# Altium footprint library L9110S_Motor_Drive.PcbLib: 1 footprints
Each footprint in its own frame and in the unit in brackets; x right, y up, seen from the top. Pads: shape width x height; smd on the part's side, far side on the other; paste and mask are expansions set on the pad; w line width, h text height; cw(c..) or ccw(c..) is an arc to the next point about the centre after c.
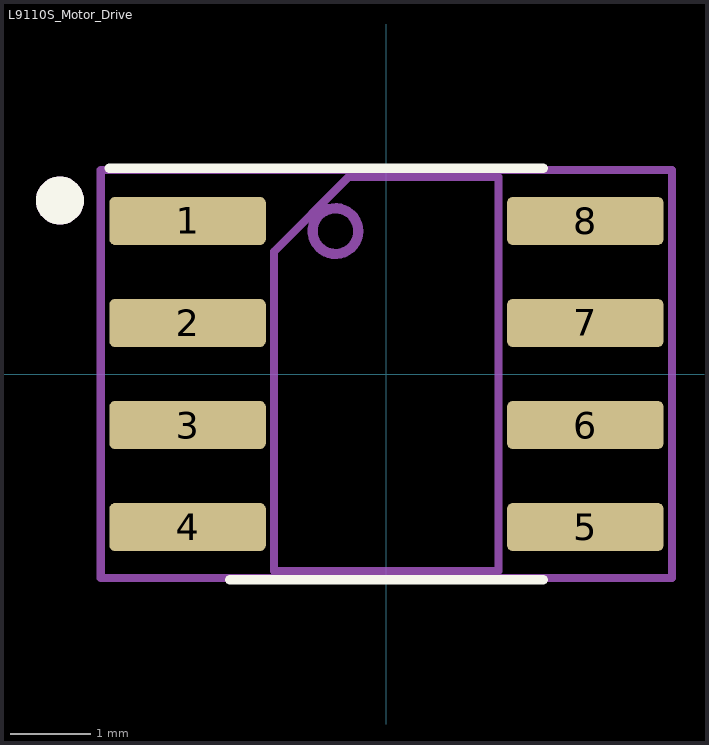
[diagram p0: the footprint, top view; thin cyan lines are the x and y axes]

## L9110S_Motor_Drive [mm]
pads (10):
  rrect25% 1.95x0.6 smd mask+0.102: 1(-2.475,1.905) 2(-2.475,0.635) 3(-2.475,-0.635) 4(-2.475,-1.905) 5(2.475,-1.905) 6(2.475,-0.635) 7(2.475,0.635) 8(2.475,1.905)
  round 0.6 on Top Overlay: ""(-4.064,2.159)
  round 0.6 on Mech1: ""(-4.064,2.159)
Top Overlay:
  lines w0.12: -3.45,2.56 0,2.56 1.95,2.56 ; -1.95,-2.56 0,-2.56 1.95,-2.56
Mechanical 1:
  circle w0.127: c-0.635,1.778 r0.284
  lines w0.1: -3.556,-2.54 3.556,-2.54 3.556,2.54 -3.556,2.54 -3.556,-2.54 ; -1.397,-2.45 1.397,-2.45 1.397,2.45 -0.471,2.45 -1.397,1.524 -1.397,-2.45
  text ".Designator" at 0,0.188 h1
Mechanical 15:
  text "+" at -0.333,-0.5 h1
3D body "SOP-8.STEP": height 1.87, standoff 0, extent -3.11,-2.5 3.11,2.5